# Altium integrated library LTST-C170KGKT.IntLib: 1 symbol
Pins are listed as number, name and electrical type; pins without a type are passive.

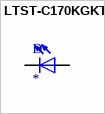
[diagram p0: symbol LTST-C170KGKT]

## LTST-C170KGKT
designator D
Green 571nm LED Indication - Discrete 2V 0805 (2012 Metric); MP: LTST-C170KGKT; MF: Lite-On Inc.; SnapEDA_Link: https://www.snapeda.com/parts/LTST-C170KGKT/Lite-On%20Inc./view-part/51978/?ref=snap; Package: 0805 Lite-On; Mouser-Purchase-URL: https://snapeda.com/shop?store=Mouser&id=51978; Arrow_Electronics-Purchase-URL: https://snapeda.com/shop?store=Arrow+Electronics&id=51978; Availability: Unavailable; Price: None; Value: *; DigiKey-Purchase-URL: https://snapeda.com/shop?store=DigiKey&id=51978
footprint DIOC200X125X110
pins: NEG, POS